# Altium integrated library Extra.IntLib: 16 symbols
Pins are listed as number, name and electrical type; pins without a type are passive.

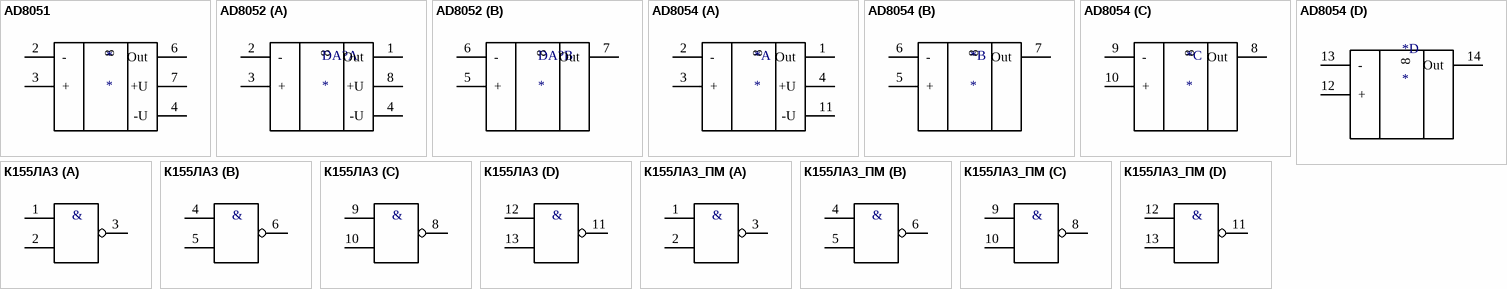
[diagram p0: symbols AD8051 to К155ЛА3_ПМ]

## AD8051
designator *
pins: 2 -, 3 +, 4 -U, 6 Out, 7 +U, 8 NC hidden to NC

## AD8052
designator DA?
part A pins: 1 Out, 2 -, 3 +, 4 -U, 8 +U
part B pins: 5 +, 6 -, 7 Out

## AD8054
designator *
part A pins: 1 Out, 2 -, 3 +, 4 +U, 11 -U
part B pins: 5 +, 6 -, 7 Out
part C pins: 8 Out, 9 -, 10 +
part D pins: 12 +, 13 -, 14 Out

## К155ЛА3
designator ?
pins on every part: 7 GND (power) hidden to GND, 14 +5V (power) hidden to +5V
part A pins: 1, 2, 3
part B pins: 4, 5, 6
part C pins: 8, 9, 10
part D pins: 11, 12, 13
part A text: &
part B text: &
part C text: &
part D text: &

## К155ЛА3_ПМ
designator ?
footprint К155ЛА3
pins on every part: 7 GND (power) hidden to GND, 14 +5V (power) hidden to +5V
part A pins: 1, 2, 3
part B pins: 4, 5, 6
part C pins: 8, 9, 10
part D pins: 11, 12, 13
part A text: &
part B text: &
part C text: &
part D text: &


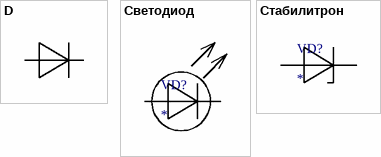
[diagram p1: symbols D to Стабилитрон]

## D
designator D  (value not drawn)
footprint D9A
pins: 1, 2

## Светодиод
designator VD?
pins: 1 "Анод", 2 "Катод"

## Стабилитрон
designator VD?
pins: 1, 2


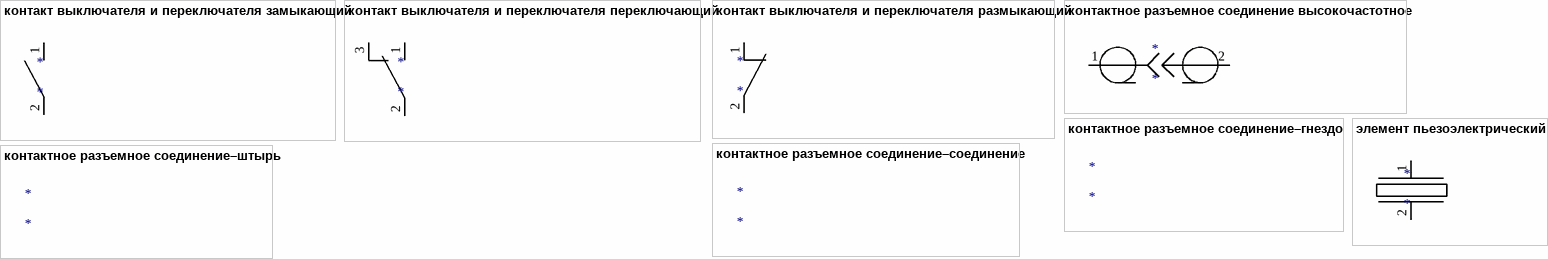
[diagram p2: symbols контакт выключателя и переключателя замыкающий to элемент пьезоэлектрический]

## контакт выключателя и переключателя замыкающий
designator *
pins: 1, 2

## контакт выключателя и переключателя переключающий
designator *
pins: 1, 2, 3

## контакт выключателя и переключателя размыкающий
designator *
pins: 1, 2

## контактное разъемное соединение высокочастотное
designator *
pins: 1, 2

## контактное разъемное соединение–гнездо
designator *

## контактное разъемное соединение–соединение
designator *

## контактное разъемное соединение–штырь
designator *

## элемент пьезоэлектрический
designator *
pins: 1, 2